# Altium schematic symbol library ON Semiconductor.SchLib: 3 symbols
Pins are listed as number, name and electrical type; pins without a type are passive.

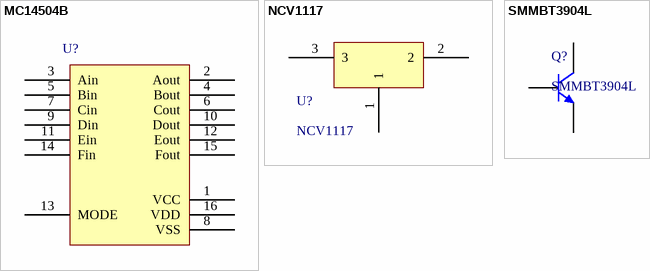
[diagram p0: symbols MC14504B to SMMBT3904L]

## MC14504B
designator U?, comment U?  (value not drawn)
pins: 1 VCC, 2 Aout, 3 Ain, 4 Bout, 5 Bin, 6 Cout, 7 Cin, 8 VSS, 9 Din, 10 Dout, 11 Ein, 12 Eout, 13 MODE, 14 Fin, 15 Fout, 16 VDD

## NCV1117
designator U?
pins: 1, 2, 3

## SMMBT3904L
designator Q?
pins: 1 B, 2 E, 3 C